# Altium footprint library RF Switches.PcbLib: 12 footprints
Each footprint in its own frame and in the unit in brackets; x right, y up, seen from the top. Pads: shape width x height; smd on the part's side, far side on the other; paste and mask are expansions set on the pad; w line width, h text height; cw(c..) or ccw(c..) is an arc to the next point about the centre after c.
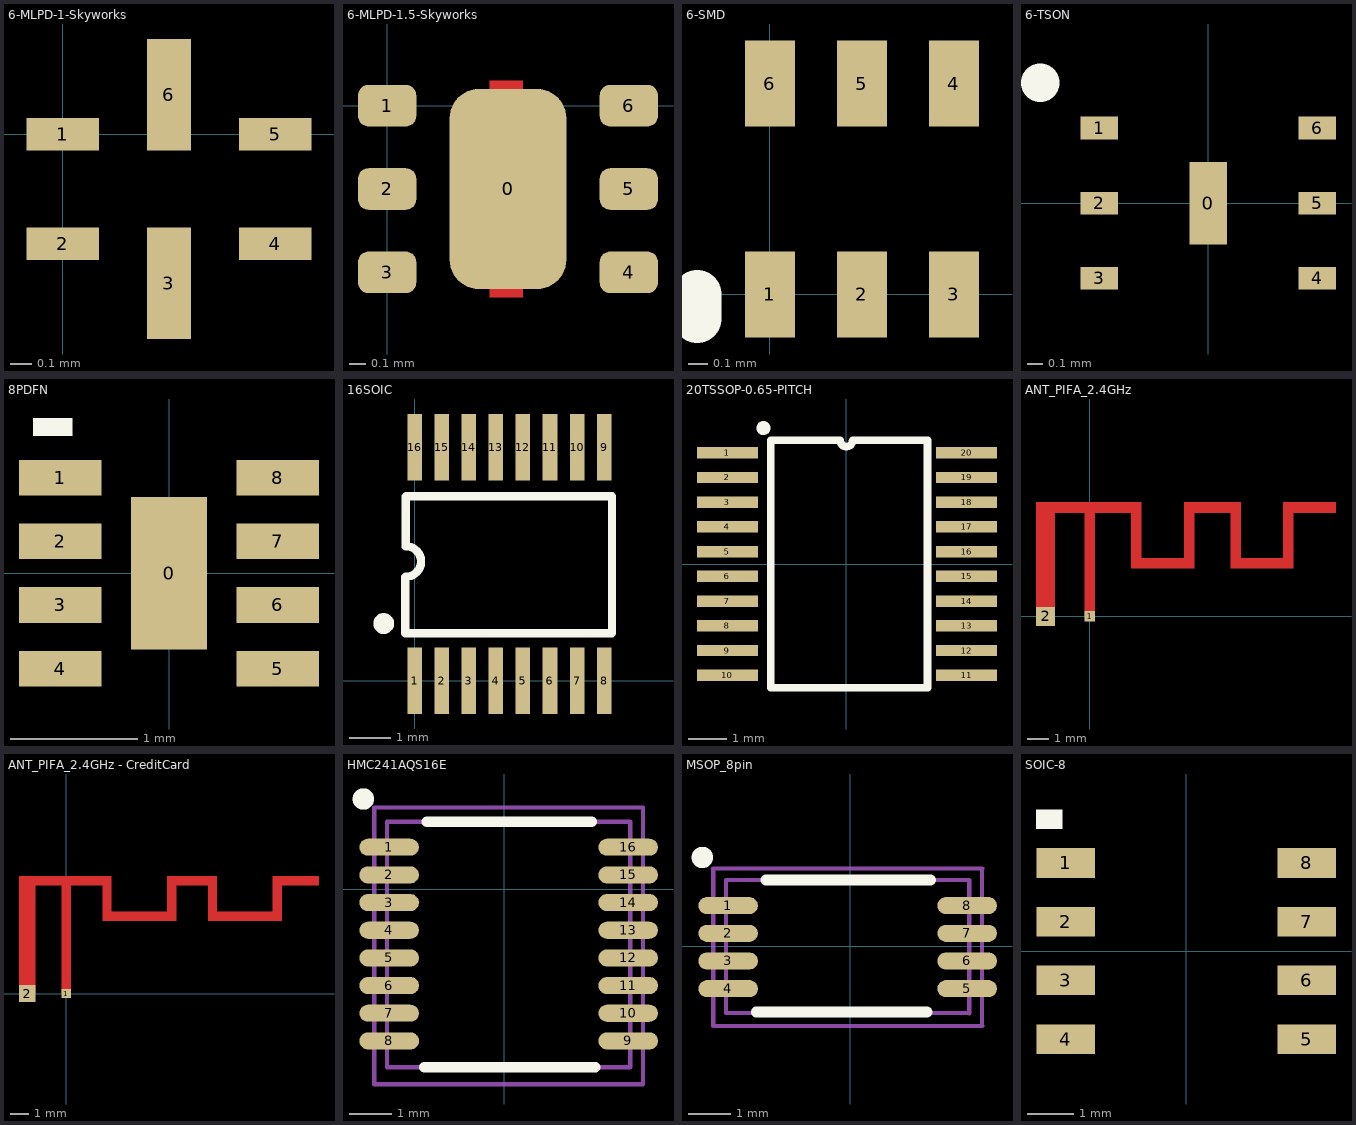
[diagram p0: the footprints below, top view; thin cyan lines are the x and y axes]

## 6-MLPD-1-Skyworks [mm] "6-MLPD(1x1) For Skyworks Switches"
pads (6):
  rect 0.33x0.15 smd mask+0: 1(0,0) 2(0,-0.5) 4(0.97,-0.5) 5(0.97,0)
  rect 0.2x0.51 smd mask+0: 3(0.485,-0.68) 6(0.485,0.18)

## 6-MLPD-1.5-Skyworks [mm] "6-MLPD(1.5x1.5) For Skyworks Switches"
pads (7):
  rrect50% 0.7x1.2 smd mask+0: 0(0.725,-0.5)
  rrect50% 0.35x0.25 smd mask+0: 1(0,0) 2(0,-0.5) 3(0,-1) 4(1.45,-1) 5(1.45,-0.5) 6(1.45,0)
Top Layer:
  rectangle: 0.615,0.06 0.815,0.15
  rectangle: 0.615,-1.15 0.815,-1.08

## 6-SMD [mm] "6-PIN LEAD-LESS MINIMOLD (1511) for CEL"
pads (6):
  rect 0.26x0.45 smd mask+0.05: 1(0,0) 2(0.48,0) 3(0.96,0) 4(0.96,1.1) 5(0.48,1.1) 6(0,1.1)
Top Overlay:
  lines w0.254: -0.381,-0.127 -0.381,0

## 6-TSON [mm] "6-TSON XPOSED Pad for CEL"
height 0.37
pads (7):
  rect 0.25x0.55 smd mask+0.125: 0(0,0)
  rect 0.25x0.15 smd mask+0.025: 1(-0.725,0.5) 2(-0.725,0) 3(-0.725,-0.5) 4(0.725,-0.5) 5(0.725,0) 6(0.725,0.5)
Top Overlay:
  lines w0.254: -1.116,0.8 ccw(c-1.13,0.8) -1.116,0.803

## 8PDFN [mm] "MASW-008955"
pads (9):
  rect 0.6x1.2 smd paste+0 mask+0: 0(0,0)
  rect 0.65x0.28 smd paste+0: 1(-0.855,0.75) 2(-0.855,0.25) 3(-0.855,-0.25) 4(-0.855,-0.75) 5(0.855,-0.75) 6(0.855,-0.25) 7(0.855,0.25) 8(0.855,0.75)
Top Overlay:
  rectangle: -1.07,1.08 -0.76,1.22

## 16SOIC [mm] "For the level shifter"
pads (16):
  rect 0.35x1.6 smd: 1(0,0) 2(0.65,0) 3(1.3,0) 4(1.95,0) 5(2.6,0) 6(3.25,0) 7(3.9,0) 8(4.55,0) 9(4.55,5.6) 10(3.9,5.6) 11(3.25,5.6) 12(2.6,5.6) 13(1.95,5.6) 14(1.3,5.6) 15(0.65,5.6) 16(0,5.6)
Top Overlay:
  circle w0.25: c-0.74,1.37 r0.125
  lines w0.2: -0.22,2.487 -0.22,1.14 4.74,1.14 4.74,4.43 -0.2,4.43 -0.21,4.42 -0.21,3.22 ; -0.21,2.493 ccw(c-0.21,2.86) -0.21,3.227

## 20TSSOP-0.65-PITCH [mm]
pads (20):
  rect 1.6x0.3 smd: 1(-3.13,2.925) 2(-3.13,2.275) 3(-3.13,1.625) 4(-3.13,0.975) 5(-3.13,0.325) 6(-3.13,-0.325) 7(-3.13,-0.975) 8(-3.13,-1.625) 9(-3.13,-2.275) 10(-3.13,-2.925) 11(3.16,-2.925) 12(3.16,-2.275) 13(3.16,-1.625) 14(3.16,-0.975) 15(3.16,-0.325) 16(3.16,0.325) 17(3.16,0.975) 18(3.16,1.625) 19(3.16,2.275) 20(3.16,2.925)
Top Overlay:
  circle w0.254: c-2.182,3.575 r0.057
  lines w0.2: -1.987,-3.25 -1.987,3.25 -0.162,3.25 ccw(c0,3.25) 0.162,3.25 2.132,3.25 2.132,-3.25 -1.987,-3.25

## ANT_PIFA_2.4GHz [mm] "2.4 ghz pifa antenna designed in HFSS"
pads (2):
  rect 0.5x0.5 smd: 1(0,0)
  rect 0.9x0.9 smd: 2(-2.1,0)
Top Layer:
  rectangle: 9.15,4.9 11.65,5.4
  rectangle: 9.15,2.26 9.65,5.2
  rectangle: 6.9,2.26 9.4,2.76
  rectangle: 6.65,2.26 7.15,5.1
  rectangle: 4.45,4.9 7.15,5.4
  rectangle: 4.45,2.26 4.95,5.1
  rectangle: 2.2,2.26 4.7,2.76
  rectangle: 1.95,2.26 2.45,5.2
  rectangle: -2.55,4.9 2.45,5.4
  rectangle: -2.55,0 -1.65,5.2
  rectangle: -0.25,0 0.25,5.1

## ANT_PIFA_2.4GHz - CreditCard [mm] "2.4 ghz pifa antenna designed in HFSS"
pads (2):
  rect 0.5x0.5 smd: 1(0,0)
  rect 0.9x0.9 smd: 2(-2.1,0)
Top Layer:
  rectangle: 5.45,5.84 8.15,6.34
  rectangle: 1.95,3.93 5.95,4.43
  rectangle: 1.95,4.1 2.45,6.34
  rectangle: -2.55,5.84 2.45,6.34
  rectangle: -2.55,0 -1.65,6.34
  rectangle: -0.25,0 0.25,6.34
  rectangle: 5.45,4.2 5.95,6.34
  rectangle: 7.65,4.22 8.15,6.34
  rectangle: 7.65,3.93 11.65,4.43
  rectangle: 11.15,4.24 11.65,6.34
  rectangle: 11.15,5.84 13.65,6.34

## HMC241AQS16E [mm] "SP4T switch"
height 1.75
pads (16):
  oval 1.4x0.4 smd: 1(-2.702,0.99) 2(-2.702,0.34) 3(-2.702,-0.31) 4(-2.7,-0.961) 5(-2.7,-1.61) 6(-2.7,-2.26) 7(-2.7,-2.91) 8(-2.699,-3.56) 9(2.915,-3.56) 10(2.915,-2.91) 11(2.915,-2.26) 12(2.915,-1.61) 13(2.915,-0.96) 14(2.915,-0.31) 15(2.915,0.34) 16(2.915,0.99)
Top Overlay:
  circle w0.25: c-3.308,2.123 r0.125
  lines w0.254: -1.873,-4.18 2.14,-4.18 ; -1.811,1.589 2.05,1.589
Mechanical 13:
  lines w0.1: 2.965,1.565 2.965,-4.18 -2.752,-4.18 -2.752,1.589 2.964,1.589
Mechanical 15:
  lines w0.1: -3.052,-4.58 3.26,-4.58 3.26,1.925 -3.052,1.925 -3.052,-4.58

## MSOP_8pin [mm]
pads (8):
  oval 1.4x0.4 smd: 1(-2.872,0.95) 2(-2.872,0.3) 3(-2.872,-0.35) 4(-2.87,-1.001) 5(2.745,-1) 6(2.745,-0.35) 7(2.745,0.3) 8(2.745,0.95)
Top Overlay:
  circle w0.25: c-3.478,2.083 r0.125
  lines w0.254: -2.21,-1.549 1.803,-1.549 ; -1.981,1.549 1.88,1.549
Mechanical 13:
  lines w0.1: 2.795,1.525 2.795,-1.575 -2.922,-1.575 -2.922,1.549 2.794,1.549
Mechanical 15:
  lines w0.1: 3.095,-1.875 3.095,1.825 ; 3.099,-1.875 -3.222,-1.875 -3.222,1.825 3.099,1.825

## SOIC-8 [mm] "For MASWSS0157"
pads (8):
  rect 1.27x0.64 smd: 1(-2.605,1.905) 2(-2.605,0.635) 3(-2.605,-0.635) 4(-2.605,-1.905) 5(2.605,-1.905) 6(2.605,-0.635) 7(2.605,0.635) 8(2.605,1.905)
Top Overlay:
  rectangle: -3.25,2.64 -2.68,3.06